# Altium footprint library (Poly)TC364_MainBoard_PCB_V1.1.PcbLib: 27 footprints (part 1 of 2)
Each footprint in its own frame and in the unit in brackets; x right, y up, seen from the top. Pads: shape width x height; smd on the part's side, far side on the other; paste and mask are expansions set on the pad; w line width, h text height; cw(c..) or ccw(c..) is an arc to the next point about the centre after c.
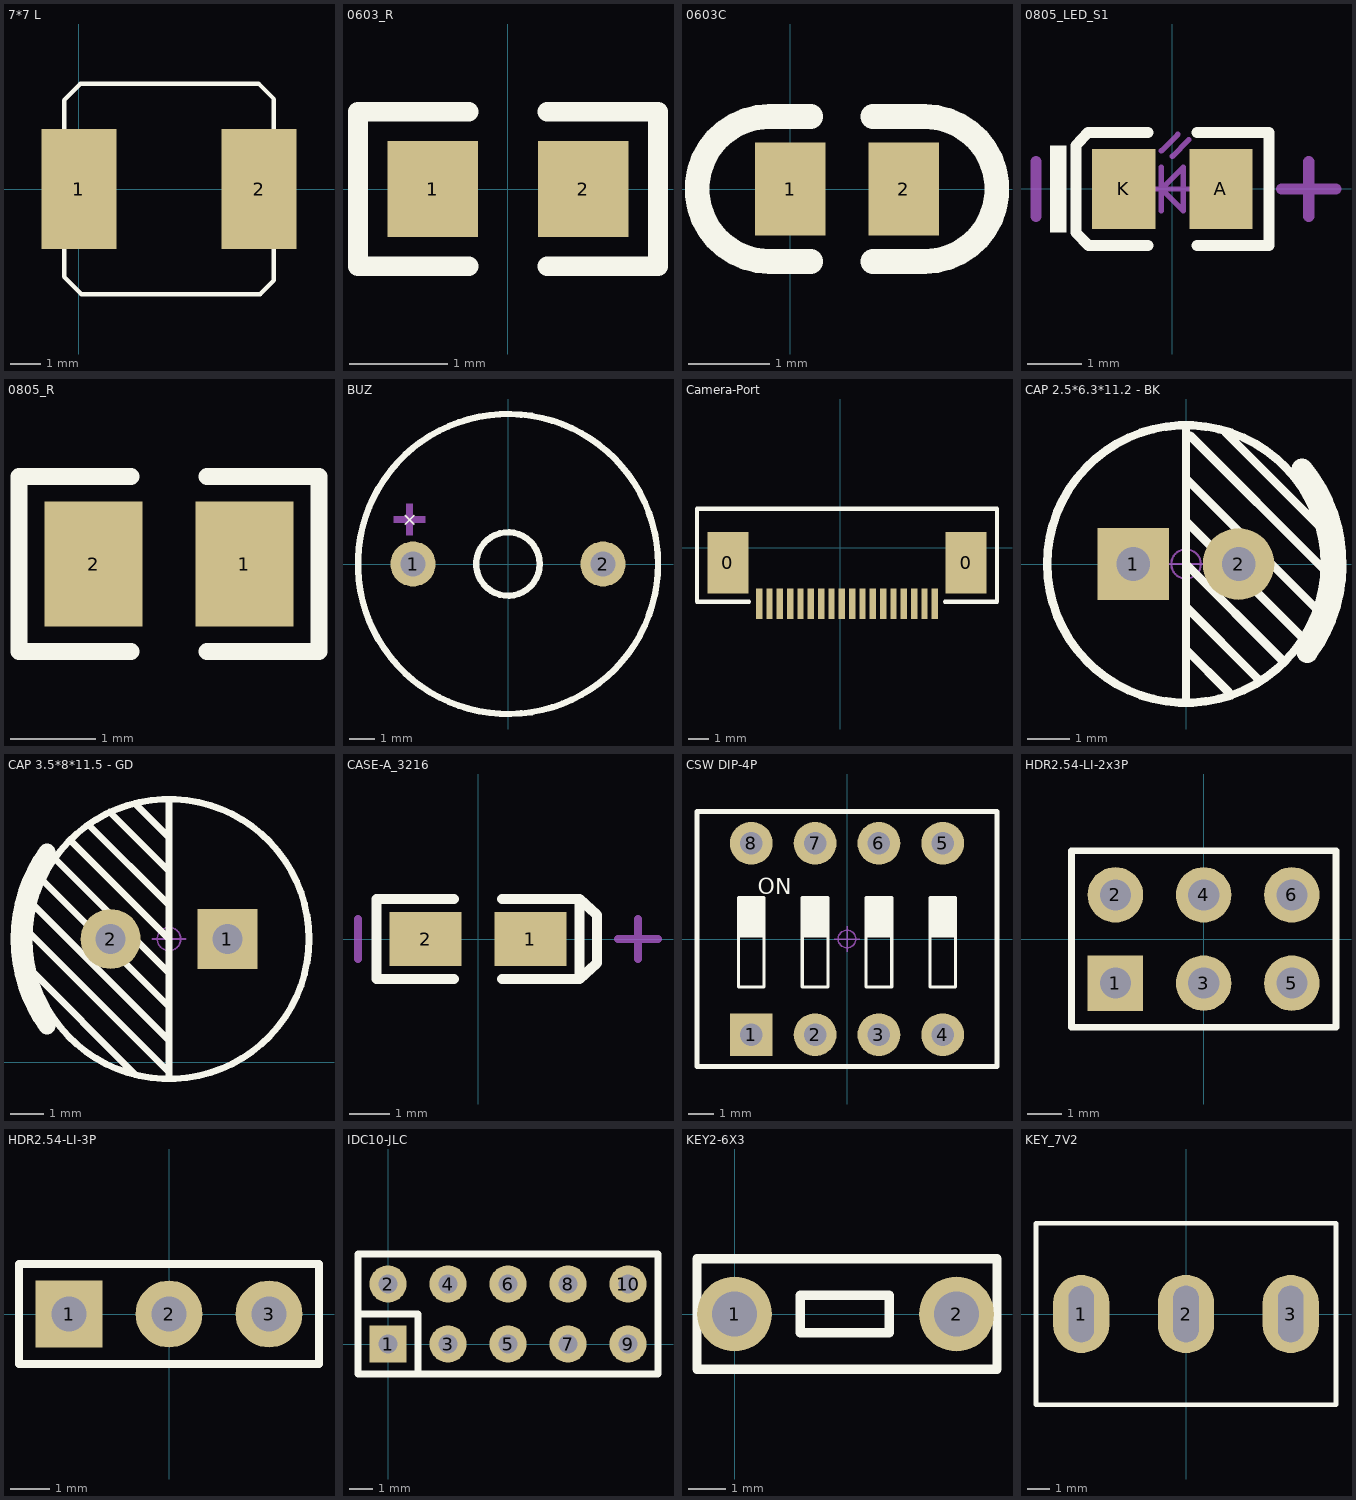
[diagram p0: the footprints below, top view; thin cyan lines are the x and y axes]

## 7*7 L [mm]
pads (2):
  rect 2.5x4 smd: 1(0,0) 2(6,0)
Top Overlay:
  lines w0.15: -0.5,-2.93 0.07,-3.5 6.04,-3.5 6.5,-3.04 6.5,-2.82 6.5,2.76 6.5,3 6,3.5 0.04,3.5 -0.5,2.96 -0.5,2.75 -0.5,-2.52 -0.5,-2.93

## 0603_R [mm]
pads (2):
  rect 0.93x0.98 smd: 1(-0.77,0) 2(0.77,0)
Top Overlay:
  lines w0.2: -0.4,-0.79 -1.535,-0.79 -1.535,0.79 -0.4,0.79 ; 0.4,-0.79 1.535,-0.79 1.535,0.79 0.4,0.79
3D body "User Library-RES_1609-0603.STEP": height 0.56, standoff 0, extent -0.85,-0.4 0.85,0.4

## 0603C [mil]
pads (2):
  rect 34x45 smd: 1(0,0) 2(55,0)
Top Overlay:
  lines w12: 10,-35 -10,-35 cw(c-10,0) -10,35 10,35 ; 40,-35 65,-35 ccw(c65,0) 65,35 40,35
3D body "SW3DPS-CAPACITOR 0603-DEFAULT.STEP": height 36.93, standoff 3.07, extent -3.49,-17.86 59.5,16

## 0805_LED_S1 [mm]
height 1.25
pads (2):
  rect 1.16x1.47 smd: A(0.89,0) K(-0.89,0)
Top Overlay:
  rectangle: -2.245,-0.8 -1.945,0.8
  lines w0.2: -0.45,-1.035 -1.535,-1.035 -1.77,-0.8 -1.77,0.8 -1.55,1.035 -0.45,1.035 ; 0.45,-1.035 1.77,-1.035 1.77,1.035 0.45,1.035
Mechanical 13:
  lines w0.1: -0.4,0 0.4,0 ; -0.2,-0.4 -0.2,0.4 ; -0.2,0.7 0.1,1 ; 0,0.6 0.3,0.9 ; -0.2,0 0.2,0.4 0.2,-0.4 -0.2,0
Mechanical 15:
  lines w0.203: -2.5,-0.5 -2.5,0.5 ; 2,0 3,0 ; 2.5,-0.5 2.5,0.5
3D body "User Library-led_0805.step": height 1.1, standoff 0, extent -1.01,-0.625 1.01,0.625

## 0805_R [mm]
pads (2):
  rect 1.16x1.47 smd: 1(-1.141,2.034) 2(-2.921,2.034)
Top Overlay:
  lines w0.2: -2.481,0.999 -3.801,0.999 -3.801,3.069 -2.481,3.069 ; -1.581,0.999 -0.261,0.999 -0.261,3.069 -1.581,3.069
3D body "User Library-R_0805.STEP": height 0.49, standoff -0.01, extent -3.034,1.409 -1.034,2.659

## BUZ [mm]
pads (2):
  round 1.8 hole 1: 1(-3.8,0) 2(3.8,0)
Top Overlay:
  circle w0.254: c0,0 r6
  circle w0.254: c0,0 r1.27
  text "+" at -3.996,1.316 h0.64
Mechanical 15:
  region: -4.064,1.27 -4.064,2.413 -3.81,2.413 -3.81,1.143 -4.064,1.143
  region: -4.445,1.905 -3.302,1.905 -3.302,1.651 -4.572,1.651 -4.572,1.905

## Camera-Port [mil]
pads (20):
  rect 78.74x118.11 smd: 0(-214.92,-28.76) 0(241.68,-28.76)
  rect 12x59.06 smd: 1(181.68,-107.5) 2(161.88,-107.5) 3(142.08,-107.5) 4(122.28,-107.5) 5(102.48,-107.5) 6(82.68,-107.5) 7(62.88,-107.5) 8(43.08,-107.5) 9(23.28,-107.5) 10(3.48,-107.5) 11(-16.32,-107.5) 12(-36.12,-107.5) 13(-55.92,-107.5) 14(-75.72,-107.5) 15(-95.52,-107.5) 16(-115.32,-107.5) 17(-135.12,-107.5) 18(-154.92,-107.5)
Top Overlay:
  lines w8: -174.62,-103.5 -274.02,-103.5 -274.02,74.5 300.78,74.5 300.78,-103.5 201.38,-103.5
3D body "1-1734592-8.stp": height 79.13, standoff -1.57, extent -270.69,-111.44 297.42,89.74

## CAP 2.5*6.3*11.2 - BK [mm] "脚距2.5mm直径6.3mm高度11.2mm             淘宝ID:黄晶宝石"
height 1.25
pads (2):
  rect 1.7x1.7 hole 0.8: 1(-1.25,0)
  round 1.7 hole 0.8: 2(1.25,0)
Top Overlay:
  circle w0.2: c0,0 r3.3
  lines w0.2: 0,-3.226 0,3.277 ; 0,-2.032 1.016,-3.048 ; 0,-1.016 1.727,-2.743 ; 0,0 2.299,-2.299 ; 0,1.016 2.769,-1.753 2.87,-1.753 ; 0,2.032 3.099,-1.067 ; 0,3.048 0.102,3.048 3.302,-0.152 ; 0.927,3.137 3.124,0.94 3.2,0.94
  lines w0.504: 2.759,2.258 cw(c0,0) 2.883,-2.097
Mechanical 15:
  circle w0.05: c0,0 r0.35
  lines w0.05: -0.5,0 0.5,0 ; 0,-0.5 0,0.5
3D body "CAP 2.5X6.3X11.2.STEP": height 11.24, standoff -3.37, extent -3.15,-3.15 3.16,3.15

## CAP 3.5*8*11.5 - GD [mm]
pads (2):
  rect 1.8x1.8 hole 0.9: 1(14.648,3.7)
  round 1.8 hole 0.9: 2(11.148,3.7)
Top Overlay:
  circle w0.2: c12.898,3.7 r4.2
  lines w0.2: 8.707,2.811 11.882,-0.364 ; 8.707,3.827 8.771,3.827 12.898,-0.3 ; 8.834,4.716 12.898,0.652 ; 9.088,5.478 12.898,1.668 ; 9.469,6.113 12.898,2.684 ; 9.977,6.621 12.898,3.7 ; 10.485,7.129 12.898,4.716 ; 11.12,7.51 12.898,5.732 ; 11.882,7.764 12.898,6.748 ; 12.898,-0.491 12.898,-0.3 ; 12.898,7.891 12.898,-0.3
  lines w0.504: 9.235,1.084 cw(c12.898,3.7) 9.235,6.316
Mechanical 15:
  circle w0.05: c12.898,3.7 r0.35
  lines w0.05: 12.398,3.7 13.398,3.7 ; 12.898,3.2 12.898,4.2
3D body "CAP 3.5X8X11.5.STEP": height 11.54, standoff -3.37, extent 8.888,-0.3 16.898,7.7

## CASE-A_3216 [mm]
pads (2):
  rect 1.8x1.35 smd: 1(1.31,0) 2(-1.31,0)
Top Overlay:
  lines w0.254: -0.6,-1.002 -2.537,-1.002 -2.537,1.002 -0.6,1.002 ; 0.6,-1.002 2.537,-1.002 ; 0.6,1.002 2.537,1.002 ; 2.537,-1.002 2.973,-0.6 2.973,0.6 2.537,1.002 ; 2.537,-1.002 2.537,1.002
Mechanical 15:
  lines w0.203: -3,-0.5 -3,0.5 ; 3.5,0 4.5,0 ; 4,-0.5 4,0.5
3D body "User Library-AVX_ACASE.STEP": height 1.71, standoff 0, extent -1.7,-0.84 1.7,0.84

## CSW DIP-4P [mm] "11.7*9.9*7mm"
height 1.25
pads (8):
  rect 1.7x1.7 hole 0.9: 1(-3.81,-3.81)
  round 1.7 hole 0.9: 2(-1.27,-3.81) 3(1.27,-3.81) 4(3.81,-3.81) 5(3.81,3.81) 6(1.27,3.81) 7(-1.27,3.81) 8(-3.81,3.81)
Top Overlay:
  rectangle: 3.302,0.126 4.318,1.65
  rectangle: 0.762,0.126 1.778,1.65
  rectangle: -1.778,0.126 -0.762,1.65
  rectangle: -4.318,0.126 -3.302,1.65
  lines w0.127: -4.318,0.127 -3.302,0.127 ; -1.778,0.127 -0.762,0.127 ; 0.762,0.127 1.778,0.127 ; 3.302,0.127 4.318,0.127 ; -4.318,-1.905 -3.302,-1.905 -3.302,1.651 -4.318,1.651 -4.318,-1.905 ; -1.778,-1.905 -0.762,-1.905 -0.762,1.651 -1.778,1.651 -1.778,-1.905 ; 0.762,-1.905 1.778,-1.905 1.778,1.651 0.762,1.651 0.762,-1.905 ; 3.302,-1.905 4.318,-1.905 4.318,1.651 3.302,1.651 3.302,-1.905
  lines w0.2: -5.969,-5.08 5.969,-5.08 5.969,5.08 -5.969,5.08 -5.969,-5.08
  text "ON" at -3.556,1.778 h0.64
Mechanical 15:
  circle w0.05: c0,0 r0.35
  lines w0.05: -0.5,0 0.5,0 ; 0,-0.5 0,0.5
3D body "CSW DIP-4P.STEP": height 6.65, standoff -3.15, extent -5.86,-4.95 5.86,4.95

## HDR2.54-LI-2x3P [mm] "封装库来自淘宝卖家 ID：黄晶宝石"
height 1.25
pads (6):
  rect 1.6x1.6 hole 0.9: 1(-2.54,-1.27)
  round 1.6 hole 0.9: 2(-2.54,1.27) 3(0,-1.27) 4(0,1.27) 5(2.54,-1.27) 6(2.54,1.27)
Top Overlay:
  lines w0.2: -1.058,-2.54 3.81,-2.54 ; 3.81,-2.54 3.81,2.54 -3.81,2.54 -3.81,-2.54 3.81,-2.54
3D body "HDR2.54-1x2P.STEP": height 8.5, standoff -3, extent 1.27,-2.54 3.81,2.54
3D body "HDR2.54-1x2P.STEP": height 8.5, standoff -3, extent -3.81,-2.54 -1.27,2.54
3D body "HDR2.54-1x2P.STEP": height 8.5, standoff -3, extent -1.27,-2.54 1.27,2.54

## HDR2.54-LI-3P [mm] "排针，3脚"
height 1.25
pads (3):
  rect 1.7x1.7 hole 0.9: 1(-2.54,0)
  round 1.7 hole 0.9: 2(0,0) 3(2.54,0)
Top Overlay:
  lines w0.2: -3.81,-1.27 3.81,-1.27 3.81,1.27 -3.81,1.27 -3.81,-1.27
3D body "HDR2.54-1P.STEP": height 8.5, standoff -3, extent -3.81,-1.27 -1.27,1.27
3D body "HDR2.54-1P.STEP": height 8.5, standoff -3, extent -1.27,-1.27 1.27,1.27
3D body "HDR2.54-1P.STEP": height 8.5, standoff -3, extent 1.27,-1.27 3.81,1.27

## IDC10-JLC [mil]
pads (10):
  rect 62x62 hole 32: 1(0,0)
  round 62 hole 32: 2(0,100) 3(100,0) 4(100,100) 5(200,0) 6(200,100) 7(300,0) 8(300,100) 9(400,0) 10(400,100)
Top Overlay:
  lines w12: -50,50 50,50 50,-50 ; -50,-50 450,-50 450,150 -50,150 -50,-50
3D body "User Library-CONMHD10A-2mm54.step": height 314.96, standoff -118.11, extent -52.99,-44.99 447.01,155.01

## KEY2-6X3 [mil]
pads (2):
  round 80 hole 48: 1(0,0) 2(236.85,0)
Top Overlay:
  lines w10: -40,-59.06 280,-59.06 280,59.06 -40,59.06 -40,-59.06 ; 70,-20 70,20 165,20 165,-20 70,-20
3D body "TSW DIP-3x6x4.3.STEP": height 169.69, standoff -137.4, extent -37.11,-67.79 271.11,70

## KEY_7V2 [mil]
pads (3):
  oval 99x138 hole 45 slot 100 at 90 deg: 1(-185.04,0) 2(0,0) 3(185.04,0)
Top Overlay:
  lines w8: -265,-160 265,-160 265,160 -265,160 -265,-160